# EAGLE library part ACCELEROMETER (library hackerscouts)
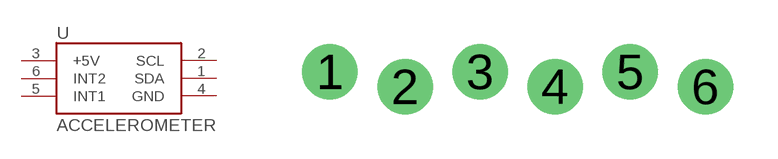
[diagram p2: symbol with the pads of ACCELEROMETER; footprint ACCELEROMETER]

Designator prefix -

## ACCELEROMETER  [ACCELEROMETER]
1  SDA
2  SCL
3  +5V
4  GND
5  INT1
6  INT2

## Footprint ACCELEROMETER (pad centres in mm)
drill 1.016 pad 1.88: 1 -6.35,-4.826; 2 -3.81,-5.334; 3 -1.27,-4.826; 4 1.27,-5.334; 5 3.81,-4.826; 6 6.35,-5.334